# Altium footprint library FF_pcb_lib.PcbLib: 102 footprints (part 5 of 7)
Each footprint in its own frame and in the unit in brackets; x right, y up, seen from the top. Pads: shape width x height; smd on the part's side, far side on the other; paste and mask are expansions set on the pad; w line width, h text height; cw(c..) or ccw(c..) is an arc to the next point about the centre after c.
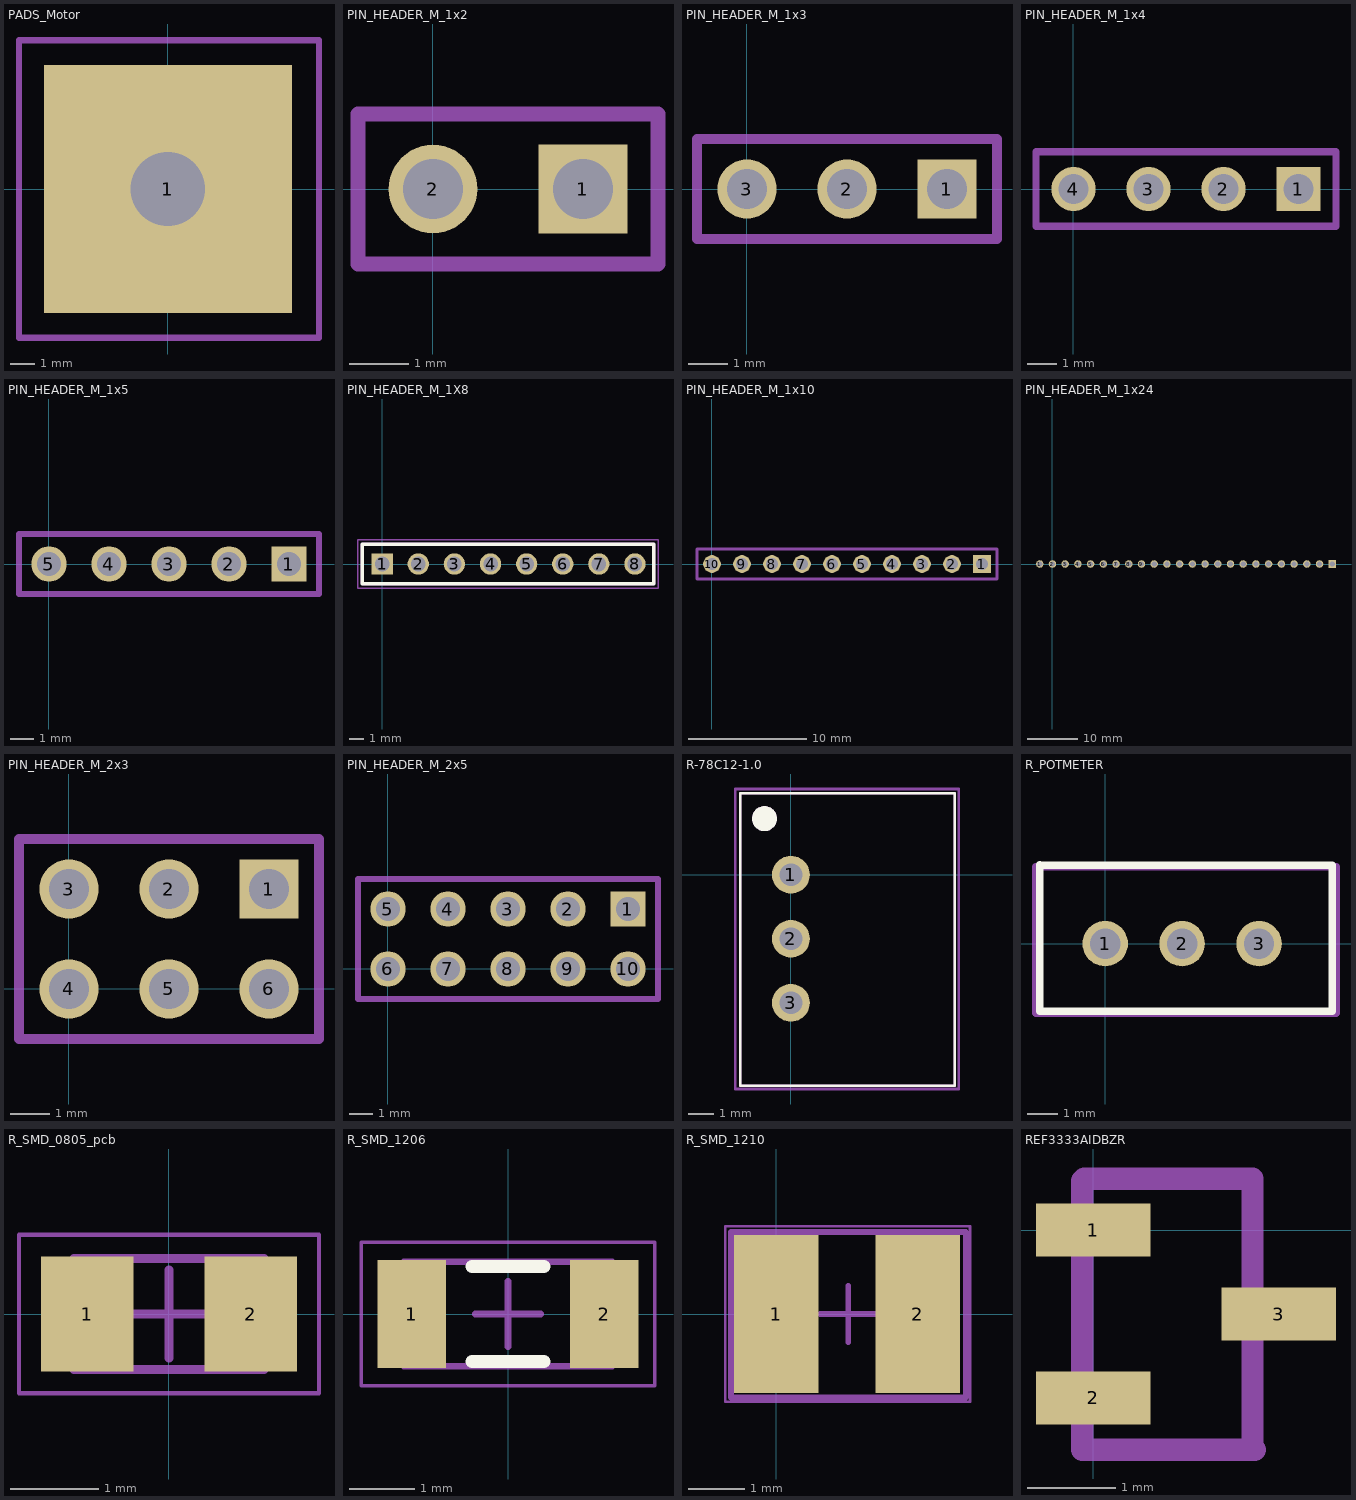
[diagram p4: the footprints below, top view; thin cyan lines are the x and y axes]

## PADS_Motor [mm]
pads (1):
  rect 10x10 hole 3: 1(0,0)
Courtyard:
  lines w0.254: -6,-6 6.096,-6 6.096,6 -6,6 -6,-6

## PIN_HEADER_M_1x2 [mm]
pads (2):
  rect 1.5x1.5 hole 1.02: 1(2.54,0)
  round 1.5 hole 1.02: 2(0,0)
Courtyard:
  lines w0.254: -1.27,-1.27 -1.27,1.27 3.81,1.27 3.81,-1.27 -1.27,-1.27
3D body "Pin Header Male 01x02 P2.54mm.stp": height 8.34, standoff -3.05, extent -1.27,-1.272 3.81,1.268

## PIN_HEADER_M_1x3 [mm]
pads (3):
  rect 1.5x1.5 hole 1.02: 1(5.08,0)
  round 1.5 hole 1.02: 2(2.54,0) 3(0,0)
Courtyard:
  lines w0.254: -1.27,-1.27 -1.27,1.27 6.35,1.27 6.35,-1.27 -1.27,-1.27
3D body "Pin Header Male 01x03 P2.54mm.stp": height 8.34, standoff -3.05, extent -1.27,-1.272 6.35,1.268

## PIN_HEADER_M_1x4 [mm]
pads (4):
  rect 1.5x1.5 hole 1.02: 1(7.62,0)
  round 1.5 hole 1.02: 2(5.08,0) 3(2.54,0) 4(0,0)
Courtyard:
  lines w0.254: -1.27,-1.27 8.89,-1.27 8.89,1.27 -1.27,1.27 -1.27,-1.27
3D body "Pin Header Male 01x04 P2.54mm.stp": height 8.34, standoff -3.05, extent -1.27,-1.272 8.89,1.268

## PIN_HEADER_M_1x5 [mm]
pads (5):
  rect 1.5x1.5 hole 1.02: 1(10.16,0)
  round 1.5 hole 1.02: 2(7.62,0) 3(5.08,0) 4(2.54,0) 5(0,0)
Courtyard:
  lines w0.254: -1.27,-1.27 1.27,-1.27 11.43,-1.27 11.43,1.27 1.27,1.27 -1.27,1.27 -1.27,-1.27
3D body "Pin Header Male 01x05 P2.54mm.stp": height 8.34, standoff -3.05, extent -1.27,-1.272 11.43,1.268

## PIN_HEADER_M_1X8 [mm]
pads (8):
  rect 1.5x1.5 hole 1.02: 1(0,0)
  round 1.5 hole 1.02: 2(2.54,0) 3(5.08,0) 4(7.62,0) 5(10.16,0) 6(12.7,0) 7(15.24,0) 8(17.78,0)
Top Overlay:
  lines w0.254: -1.4,-1.4 19.1,-1.4 19.1,1.4 -1.4,1.4 -1.4,-1.4
Mechanical 13:
  lines w0.254: -1.4,-1.4 -1.4,1.4 19.1,1.4 19.1,-1.4 -1.4,-1.4
Mechanical 15:
  lines w0.1: -1.7,-1.7 -1.7,1.7 19.4,1.7 19.4,-1.7 -1.7,-1.7
3D body "61300811121_Download_STP_61300811121_rev1.stp": height 8.77, standoff -2.77, extent -1.31,-1.27 19.01,1.27

## PIN_HEADER_M_1x10 [mm]
pads (10):
  rect 1.5x1.5 hole 1.02: 1(22.86,0)
  round 1.5 hole 1.02: 2(20.32,0) 3(17.78,0) 4(15.24,0) 5(12.7,0) 6(10.16,0) 7(7.62,0) 8(5.08,0) 9(2.54,0) 10(0,0)
Courtyard:
  lines w0.254: -1.27,-1.27 -1.27,1.27 1.27,1.27 11.43,1.27 13.97,1.27 24.13,1.27 24.13,-1.27 13.97,-1.27 11.43,-1.27 1.27,-1.27 -1.27,-1.27
3D body "Pin Header Male 01x05 P2.54mm.stp": height 8.34, standoff -3.05, extent 11.43,-1.272 24.13,1.268
3D body "Pin Header Male 01x05 P2.54mm.stp": height 8.34, standoff -3.05, extent -1.27,-1.272 11.43,1.268

## PIN_HEADER_M_1x24 [mm]
pads (24):
  round 1.5 hole 1.02: 1(-2.54,0) 2(0,0) 3(2.54,0) 4(5.08,0) 5(7.62,0) 6(10.16,0) 7(12.7,0) 8(15.24,0) 9(17.78,0) 10(20.32,0) 11(22.86,0) 12(25.4,0) 13(27.94,0) 14(30.48,0) 15(33.02,0) 16(35.56,0) 17(38.1,0) 18(40.64,0) 19(43.18,0) 20(45.72,0) 21(48.26,0) 22(50.8,0) 23(53.34,0)
  rect 1.5x1.5 hole 1.02: 24(55.88,0)
3D body "Pin Header Male 01x24 P2.54mm.stp": height 8.34, standoff -3.05, extent -3.81,-1.272 57.15,1.268

## PIN_HEADER_M_2x3 [mm]
pads (6):
  rect 1.5x1.5 hole 1.02: 1(5.08,2.54)
  round 1.5 hole 1.02: 2(2.54,2.54) 3(0,2.54) 4(0,0) 5(2.54,0) 6(5.08,0)
Courtyard:
  lines w0.254: -1.27,-1.27 6.35,-1.27 6.35,1.27 6.35,3.81 -1.27,3.81 -1.27,1.27 -1.27,-1.27
3D body "Pin Header Male 01x03 P2.54mm.stp": height 8.34, standoff -3.05, extent -1.27,-1.272 6.35,1.268
3D body "Pin Header Male 01x03 P2.54mm.stp": height 8.34, standoff -3.05, extent -1.27,1.268 6.35,3.808

## PIN_HEADER_M_2x5 [mm]
pads (10):
  rect 1.5x1.5 hole 1.02: 1(10.16,2.54)
  round 1.5 hole 1.02: 2(7.62,2.54) 3(5.08,2.54) 4(2.54,2.54) 5(0,2.54) 6(0,0) 7(2.54,0) 8(5.08,0) 9(7.62,0) 10(10.16,0)
Courtyard:
  lines w0.254: 3.81,-1.27 11.43,-1.27 11.43,1.27 11.43,3.81 3.81,3.81 ; 6.35,-1.27 -1.27,-1.27 -1.27,1.27 -1.27,3.81 6.35,3.81
3D body "Pin Header Male 01x05 P2.54mm.stp": height 8.34, standoff -3.05, extent -1.27,-1.272 11.43,1.268
3D body "Pin Header Male 01x05 P2.54mm.stp": height 8.34, standoff -3.05, extent -1.27,1.268 11.43,3.808

## R-78C12-1.0 [mm]
pads (5):
  round 1.5 hole 0.9: 1(0,0) 2(0,-2.54) 3(0,-5.08)
  round 1 on Top Overlay: ""(-1.05,2.225)
  round 1 on Mech13: ""(-1.05,2.225)
Top Overlay:
  lines w0.1: -2,-8.375 6.5,-8.375 6.5,3.225 -2,3.225 -2,2 -2,-8.375
Mechanical 13:
  lines w0.1: -2,-8.375 -2,2 -2,3.225 6.5,3.225 6.5,-8.375 -2,-8.375
Mechanical 15:
  lines w0.1: -2.2,-8.5 6.65,-8.5 6.65,3.4 -2.1,3.4 -2.2,3.4 -2.2,-8.5
3D body: height 10.4, standoff 0.1, extent -1.925,-8.275 6.4,3.15

## R_POTMETER [mm]
pads (3):
  round 1.5 hole 1: 1(0,0) 2(2.54,0) 3(5.08,0)
Top Overlay:
  lines w0.254: -2.159,2.591 7.493,2.591 7.493,-2.235 -2.159,-2.235 -2.159,2.595
Mechanical 15:
  lines w0.254: -2.286,-2.286 -2.286,2.54 7.62,2.54 7.62,-2.286 -2.286,-2.286

## R_SMD_0805_pcb [mm]
height 0.8
pads (2):
  rect 1.05x1.3 smd: 1(-0.925,0) 2(0.925,0)
Mechanical 13:
  lines w0.1: -1.075,-0.63 1.075,-0.63 1.075,0.63 -1.075,0.63 -1.075,-0.63
Mechanical 15:
  lines w0.05: -1.7,-0.9 1.7,-0.9 1.7,0.9 -1.7,0.9 -1.7,-0.9
  lines w0.1: -0.5,0 0.5,0 ; 0,-0.5 0,0.5
3D body "res_0805.stp": height 0.65, standoff 0, extent -1,-0.6 1,0.6

## R_SMD_1206 [mm]
height 1
pads (2):
  rect 1.05x1.65 smd: 1(-1.475,0) 2(1.475,0)
Top Overlay:
  lines w0.2: -0.55,-0.725 0.55,-0.725 ; -0.55,0.725 0.55,0.725
Courtyard:
  lines w0.05: -2.25,-1.1 2.25,-1.1 2.25,1.1 -2.25,1.1 -2.25,-1.1
Top Assembly:
  lines w0.1: -1.6,-0.8 -1.6,0.8 1.6,0.8 1.6,-0.8 -1.6,-0.8
Top Courtyard:
  lines w0.1: -0.5,0 0.5,0 ; 0,-0.5 0,0.5
3D body "res_1206.stp": height 0.7, standoff 0, extent -1.6,-0.8 1.6,0.8

## R_SMD_1210 [mm]
height 0.8
pads (2):
  rect 1.5x2.8 smd: 1(0,0) 2(2.5,0)
Mechanical 13:
  lines w0.1: -0.8,-1.475 3.35,-1.475 3.35,1.45 -0.8,1.45 -0.8,-1.475
Mechanical 15:
  lines w0.05: -0.9,-1.55 3.425,-1.55 3.425,1.55 -0.9,1.55 -0.9,-1.55
  lines w0.1: 0.775,0 1.775,0 ; 1.275,-0.5 1.275,0.5
3D body "res_1210.stp": height 0.7, standoff 0, extent -0.35,-1.25 2.85,1.25

## REF3333AIDBZR [mm]
pads (3):
  rect 1.3x0.6 smd: 1(0,0) 2(0,-1.9) 3(2.1,-0.95)
Courtyard:
  lines w0.254: -0.127,-2.489 -0.127,0.559 -0.102,0.584 1.803,0.584 1.803,-2.464 1.829,-2.489 -0.127,-2.489
3D body: height 1.1, standoff 0.05, extent 0.2,-2.2 1.6,0.3
3D body: height 8.34, standoff -3.05, extent 0.7,-1.1 0.7,-1.1
3D body: height 8.34, standoff -3.05, extent 0.7,-0.7 0.7,-0.7
3D body: height 8.34, standoff -3.05, extent 1,-0.3 1,-0.3